# Altium footprint library DS1024210R2.PcbLib: 1 footprints
Each footprint in its own frame and in the unit in brackets; x right, y up, seen from the top. Pads: shape width x height; smd on the part's side, far side on the other; paste and mask are expansions set on the pad; w line width, h text height; cw(c..) or ccw(c..) is an arc to the next point about the centre after c.
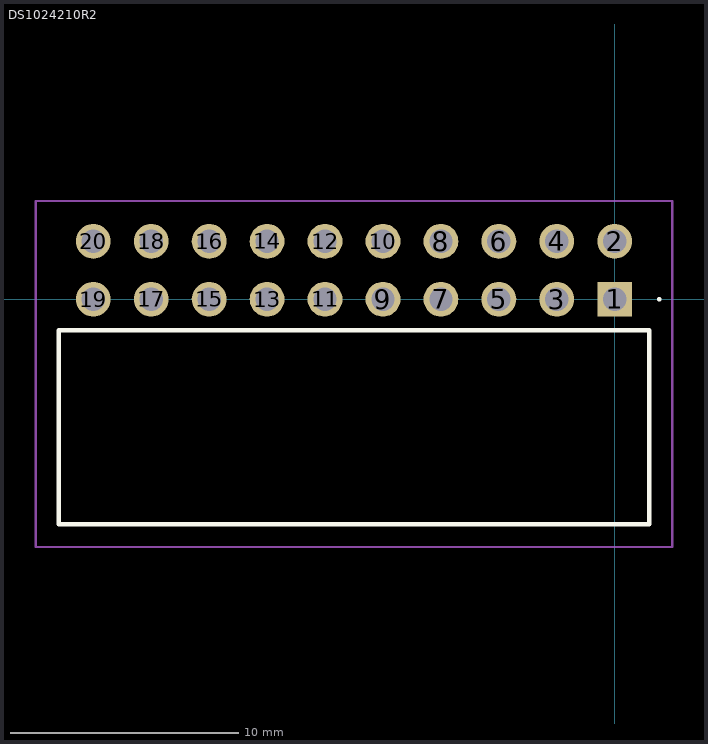
[diagram p0: the footprint, top view; thin cyan lines are the x and y axes]

## DS1024210R2 [mm]
pads (20):
  rect 1.53x1.53 hole 1.02: 1(0,0)
  round 1.53 hole 1.02: 2(0,2.54) 3(-2.54,0) 4(-2.54,2.54) 5(-5.08,0) 6(-5.08,2.54) 7(-7.62,0) 8(-7.62,2.54) 9(-10.16,0) 10(-10.16,2.54) 11(-12.7,0) 12(-12.7,2.54) 13(-15.24,0) 14(-15.24,2.54) 15(-17.78,0) 16(-17.78,2.54) 17(-20.32,0) 18(-20.32,2.54) 19(-22.86,0) 20(-22.86,2.54)
Top Overlay:
  lines w0.1: 1.9,0 1.9,0 ; 1.9,0 ccw(c1.95,0) 2,0 ; 1.9,0 cw(c1.95,0) 2,0 ; 2,0 2,0
  lines w0.2: -24.38,-9.86 1.52,-9.86 1.52,-1.36 -24.38,-1.36 -24.38,-9.86
Mechanical 15:
  lines w0.1: -24.38,-9.86 1.52,-9.86 1.52,-1.36 -24.38,-1.36 -24.38,-9.86
Mechanical 20:
  lines w0.1: -25.38,-10.86 2.52,-10.86 2.52,4.305 -25.38,4.305 -25.38,-10.86